# Altium footprint library TerminalBlock_WAGO.PcbLib: 170 footprints (part 2 of 11)
Each footprint in its own frame and in the unit in brackets; x right, y up, seen from the top. Pads: shape width x height; smd on the part's side, far side on the other; paste and mask are expansions set on the pad; w line width, h text height; cw(c..) or ccw(c..) is an arc to the next point about the centre after c.
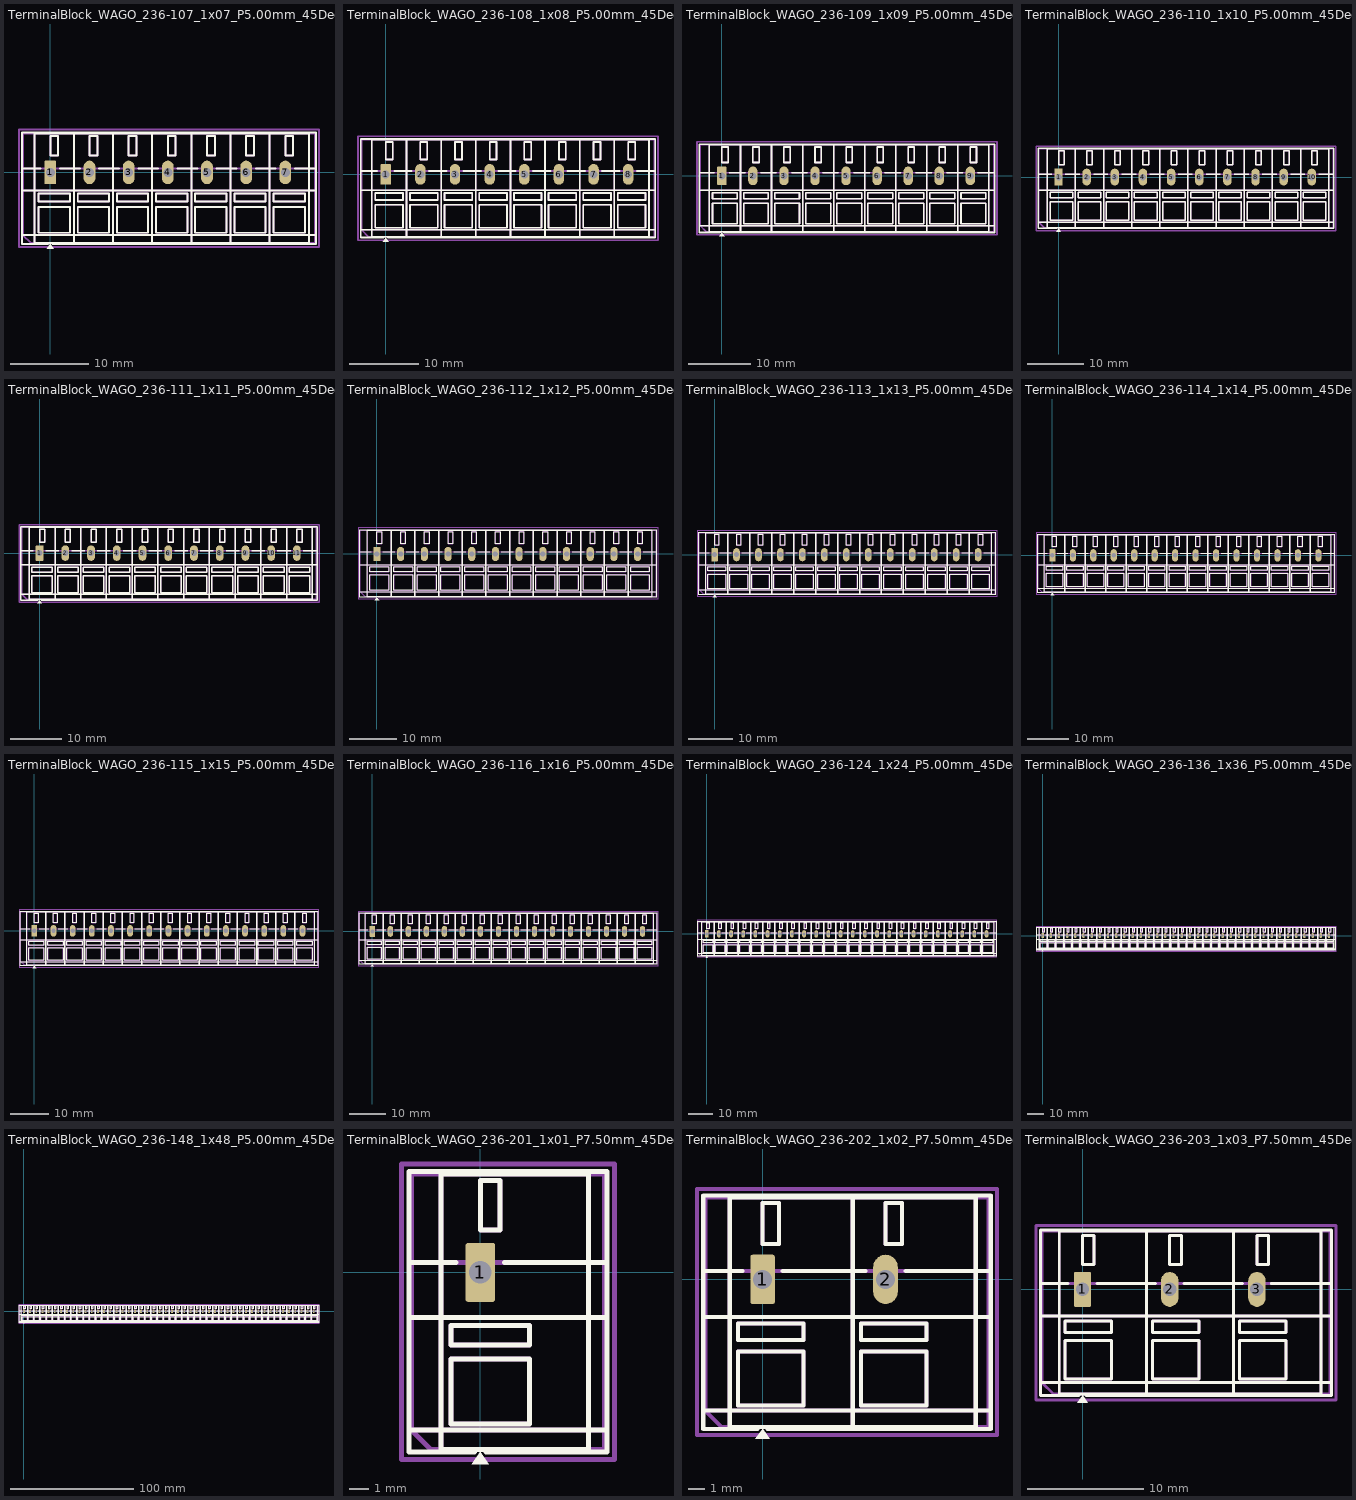
[diagram p1: the footprints below, top view; thin cyan lines are the x and y axes]

## TerminalBlock_WAGO_236-107_1x07_P5.00mm_45Degree [mm]
pads (7):
  rrect17% 1.5x3 hole 1.15: 1(0,0)
  rrect100% 1.5x3 hole 1.15: 2(5,0) 3(10,0) 4(15,0) 5(20,0) 6(25,0) 7(30,0)
F.SilkS:
  region: 0.44,-9.73 -0.44,-9.73 0,-9.12
  lines w0.254: -3.62,-8 33.92,-8 ; -3.62,-2.3 33.92,-2.3 ; -3.62,0.5 -1.23,0.5 ; -0.3,-9.12 -3.62,-9.12 -3.62,5.12 33.92,5.12 33.92,-9.12 0.3,-9.12 ; 1.23,0.5 3.77,0.5 ; 6.23,0.5 8.77,0.5 ; 11.23,0.5 13.77,0.5 ; 16.23,0.5 18.77,0.5 ; 21.23,0.5 23.77,0.5 ; 26.23,0.5 28.77,0.5 ; 31.23,0.5 33.92,0.5 ; 3,-9 3,5 ; 3,-9 -2,-9 -2,5 3,5 ; 3,-9 3,5 ; 3,-9 8,-9 ; 3,5 8,5 ; 8,-9 8,5 ; 8,-9 8,5 ; 8,-9 13,-9 ; 8,5 13,5 ; 13,-9 13,5 ; 13,-9 13,5 ; 13,-9 18,-9 ; 13,5 18,5 ; 18,-9 18,5 ; 18,-9 18,5 ; 18,-9 23,-9 ; 18,5 23,5 ; 23,-9 23,5 ; 23,-9 23,5 ; 23,-9 28,-9 ; 23,5 28,5 ; 28,-9 28,5 ; 28,-9 28,5 ; 28,-9 33,-9 33,5 28,5 ; -1.5,-7.7 -1.5,-4.4 2.5,-4.4 2.5,-7.7 -1.5,-7.7 ; -1.5,-3.7 -1.5,-2.7 2.5,-2.7 2.5,-3.7 -1.5,-3.7 ; 0,2.15 0,4.65 1,4.65 1,2.15 0,2.15 ; 3.5,-7.7 3.5,-4.4 7.5,-4.4 7.5,-7.7 3.5,-7.7 ; 3.5,-3.7 3.5,-2.7 7.5,-2.7 7.5,-3.7 3.5,-3.7 ; 5,2.15 5,4.65 6,4.65 6,2.15 5,2.15 ; 8.5,-7.7 8.5,-4.4 12.5,-4.4 12.5,-7.7 8.5,-7.7 ; 8.5,-3.7 8.5,-2.7 12.5,-2.7 12.5,-3.7 8.5,-3.7 ; 10,2.15 10,4.65 11,4.65 11,2.15 10,2.15 ; 13.5,-7.7 13.5,-4.4 17.5,-4.4 17.5,-7.7 13.5,-7.7 ; 13.5,-3.7 13.5,-2.7 17.5,-2.7 17.5,-3.7 13.5,-3.7 ; 15,2.15 15,4.65 16,4.65 16,2.15 15,2.15 ; 18.5,-7.7 18.5,-4.4 22.5,-4.4 22.5,-7.7 18.5,-7.7 ; 18.5,-3.7 18.5,-2.7 22.5,-2.7 22.5,-3.7 18.5,-3.7 ; 20,2.15 20,4.65 21,4.65 21,2.15 20,2.15 ; 23.5,-7.7 23.5,-4.4 27.5,-4.4 27.5,-7.7 23.5,-7.7 ; 23.5,-3.7 23.5,-2.7 27.5,-2.7 27.5,-3.7 23.5,-3.7 ; 25,2.15 25,4.65 26,4.65 26,2.15 25,2.15 ; 28.5,-7.7 28.5,-4.4 32.5,-4.4 32.5,-7.7 28.5,-7.7 ; 28.5,-3.7 28.5,-2.7 32.5,-2.7 32.5,-3.7 28.5,-3.7 ; 30,2.15 30,4.65 31,4.65 31,2.15 30,2.15
F.Fab:
  lines w0.254: -3.5,-2.3 33.8,-2.3 ; -3.5,0.5 33.8,0.5 ; 33.8,-8 -3.5,-8 ; -3.5,-8 -3.5,5 33.8,5 33.8,-9 -2.5,-9 -3.5,-8 ; 3,-9 -2,-9 -2,5 3,5 ; 3,-9 3,5 ; 3,-9 3,5 ; 3,-9 8,-9 ; 3,5 8,5 ; 8,-9 8,5 ; 8,-9 8,5 ; 8,-9 13,-9 ; 8,5 13,5 ; 13,-9 13,5 ; 13,-9 13,5 ; 13,-9 18,-9 ; 13,5 18,5 ; 18,-9 18,5 ; 18,-9 18,5 ; 18,-9 23,-9 ; 18,5 23,5 ; 23,-9 23,5 ; 23,-9 23,5 ; 23,-9 28,-9 ; 23,5 28,5 ; 28,-9 28,5 ; 28,-9 28,5 ; 28,-9 33,-9 33,5 28,5 ; -1.5,-7.7 -1.5,-4.4 2.5,-4.4 2.5,-7.7 -1.5,-7.7 ; -1.5,-3.7 -1.5,-2.7 2.5,-2.7 2.5,-3.7 -1.5,-3.7 ; 0,2.15 0,4.65 1,4.65 1,2.15 0,2.15 ; 3.5,-7.7 3.5,-4.4 7.5,-4.4 7.5,-7.7 3.5,-7.7 ; 3.5,-3.7 3.5,-2.7 7.5,-2.7 7.5,-3.7 3.5,-3.7 ; 5,2.15 5,4.65 6,4.65 6,2.15 5,2.15 ; 8.5,-7.7 8.5,-4.4 12.5,-4.4 12.5,-7.7 8.5,-7.7 ; 8.5,-3.7 8.5,-2.7 12.5,-2.7 12.5,-3.7 8.5,-3.7 ; 10,2.15 10,4.65 11,4.65 11,2.15 10,2.15 ; 13.5,-7.7 13.5,-4.4 17.5,-4.4 17.5,-7.7 13.5,-7.7 ; 13.5,-3.7 13.5,-2.7 17.5,-2.7 17.5,-3.7 13.5,-3.7 ; 15,2.15 15,4.65 16,4.65 16,2.15 15,2.15 ; 18.5,-7.7 18.5,-4.4 22.5,-4.4 22.5,-7.7 18.5,-7.7 ; 18.5,-3.7 18.5,-2.7 22.5,-2.7 22.5,-3.7 18.5,-3.7 ; 20,2.15 20,4.65 21,4.65 21,2.15 20,2.15 ; 23.5,-7.7 23.5,-4.4 27.5,-4.4 27.5,-7.7 23.5,-7.7 ; 23.5,-3.7 23.5,-2.7 27.5,-2.7 27.5,-3.7 23.5,-3.7 ; 25,2.15 25,4.65 26,4.65 26,2.15 25,2.15 ; 28.5,-7.7 28.5,-4.4 32.5,-4.4 32.5,-7.7 28.5,-7.7 ; 28.5,-3.7 28.5,-2.7 32.5,-2.7 32.5,-3.7 28.5,-3.7 ; 30,2.15 30,4.65 31,4.65 31,2.15 30,2.15
  text "'.Designator'" at 11.103,-1.84 h1
F.CrtYd:
  lines w0.254: -4,-9.5 -4,5.5 34.3,5.5 34.3,-9.5 -4,-9.5

## TerminalBlock_WAGO_236-108_1x08_P5.00mm_45Degree [mm]
pads (8):
  rrect17% 1.5x3 hole 1.15: 1(0,0)
  rrect100% 1.5x3 hole 1.15: 2(5,0) 3(10,0) 4(15,0) 5(20,0) 6(25,0) 7(30,0) 8(35,0)
F.SilkS:
  region: 0.44,-9.73 -0.44,-9.73 0,-9.12
  lines w0.254: -3.62,-8 38.92,-8 ; -3.62,-2.3 38.92,-2.3 ; -3.62,0.5 -1.23,0.5 ; -0.3,-9.12 -3.62,-9.12 -3.62,5.12 38.92,5.12 38.92,-9.12 0.3,-9.12 ; 1.23,0.5 3.77,0.5 ; 6.23,0.5 8.77,0.5 ; 11.23,0.5 13.77,0.5 ; 16.23,0.5 18.77,0.5 ; 21.23,0.5 23.77,0.5 ; 26.23,0.5 28.77,0.5 ; 31.23,0.5 33.77,0.5 ; 36.23,0.5 38.92,0.5 ; 3,-9 3,5 ; 3,-9 -2,-9 -2,5 3,5 ; 3,-9 3,5 ; 3,-9 8,-9 ; 3,5 8,5 ; 8,-9 8,5 ; 8,-9 8,5 ; 8,-9 13,-9 ; 8,5 13,5 ; 13,-9 13,5 ; 13,-9 13,5 ; 13,-9 18,-9 ; 13,5 18,5 ; 18,-9 18,5 ; 18,-9 18,5 ; 18,-9 23,-9 ; 18,5 23,5 ; 23,-9 23,5 ; 23,-9 23,5 ; 23,-9 28,-9 ; 23,5 28,5 ; 28,-9 28,5 ; 28,-9 28,5 ; 28,-9 33,-9 ; 28,5 33,5 ; 33,-9 33,5 ; 33,-9 33,5 ; 33,-9 38,-9 38,5 33,5 ; -1.5,-7.7 -1.5,-4.4 2.5,-4.4 2.5,-7.7 -1.5,-7.7 ; -1.5,-3.7 -1.5,-2.7 2.5,-2.7 2.5,-3.7 -1.5,-3.7 ; 0,2.15 0,4.65 1,4.65 1,2.15 0,2.15 ; 3.5,-7.7 3.5,-4.4 7.5,-4.4 7.5,-7.7 3.5,-7.7 ; 3.5,-3.7 3.5,-2.7 7.5,-2.7 7.5,-3.7 3.5,-3.7 ; 5,2.15 5,4.65 6,4.65 6,2.15 5,2.15 ; 8.5,-7.7 8.5,-4.4 12.5,-4.4 12.5,-7.7 8.5,-7.7 ; 8.5,-3.7 8.5,-2.7 12.5,-2.7 12.5,-3.7 8.5,-3.7 ; 10,2.15 10,4.65 11,4.65 11,2.15 10,2.15 ; 13.5,-7.7 13.5,-4.4 17.5,-4.4 17.5,-7.7 13.5,-7.7 ; 13.5,-3.7 13.5,-2.7 17.5,-2.7 17.5,-3.7 13.5,-3.7 ; 15,2.15 15,4.65 16,4.65 16,2.15 15,2.15 ; 18.5,-7.7 18.5,-4.4 22.5,-4.4 22.5,-7.7 18.5,-7.7 ; 18.5,-3.7 18.5,-2.7 22.5,-2.7 22.5,-3.7 18.5,-3.7 ; 20,2.15 20,4.65 21,4.65 21,2.15 20,2.15 ; 23.5,-7.7 23.5,-4.4 27.5,-4.4 27.5,-7.7 23.5,-7.7 ; 23.5,-3.7 23.5,-2.7 27.5,-2.7 27.5,-3.7 23.5,-3.7 ; 25,2.15 25,4.65 26,4.65 26,2.15 25,2.15 ; 28.5,-7.7 28.5,-4.4 32.5,-4.4 32.5,-7.7 28.5,-7.7 ; 28.5,-3.7 28.5,-2.7 32.5,-2.7 32.5,-3.7 28.5,-3.7 ; 30,2.15 30,4.65 31,4.65 31,2.15 30,2.15 ; 33.5,-7.7 33.5,-4.4 37.5,-4.4 37.5,-7.7 33.5,-7.7 ; 33.5,-3.7 33.5,-2.7 37.5,-2.7 37.5,-3.7 33.5,-3.7 ; 35,2.15 35,4.65 36,4.65 36,2.15 35,2.15
F.Fab:
  lines w0.254: -3.5,-2.3 38.8,-2.3 ; -3.5,0.5 38.8,0.5 ; 38.8,-8 -3.5,-8 ; -3.5,-8 -3.5,5 38.8,5 38.8,-9 -2.5,-9 -3.5,-8 ; 3,-9 -2,-9 -2,5 3,5 ; 3,-9 3,5 ; 3,-9 3,5 ; 3,-9 8,-9 ; 3,5 8,5 ; 8,-9 8,5 ; 8,-9 8,5 ; 8,-9 13,-9 ; 8,5 13,5 ; 13,-9 13,5 ; 13,-9 13,5 ; 13,-9 18,-9 ; 13,5 18,5 ; 18,-9 18,5 ; 18,-9 18,5 ; 18,-9 23,-9 ; 18,5 23,5 ; 23,-9 23,5 ; 23,-9 23,5 ; 23,-9 28,-9 ; 23,5 28,5 ; 28,-9 28,5 ; 28,-9 28,5 ; 28,-9 33,-9 ; 28,5 33,5 ; 33,-9 33,5 ; 33,-9 33,5 ; 33,-9 38,-9 38,5 33,5 ; -1.5,-7.7 -1.5,-4.4 2.5,-4.4 2.5,-7.7 -1.5,-7.7 ; -1.5,-3.7 -1.5,-2.7 2.5,-2.7 2.5,-3.7 -1.5,-3.7 ; 0,2.15 0,4.65 1,4.65 1,2.15 0,2.15 ; 3.5,-7.7 3.5,-4.4 7.5,-4.4 7.5,-7.7 3.5,-7.7 ; 3.5,-3.7 3.5,-2.7 7.5,-2.7 7.5,-3.7 3.5,-3.7 ; 5,2.15 5,4.65 6,4.65 6,2.15 5,2.15 ; 8.5,-7.7 8.5,-4.4 12.5,-4.4 12.5,-7.7 8.5,-7.7 ; 8.5,-3.7 8.5,-2.7 12.5,-2.7 12.5,-3.7 8.5,-3.7 ; 10,2.15 10,4.65 11,4.65 11,2.15 10,2.15 ; 13.5,-7.7 13.5,-4.4 17.5,-4.4 17.5,-7.7 13.5,-7.7 ; 13.5,-3.7 13.5,-2.7 17.5,-2.7 17.5,-3.7 13.5,-3.7 ; 15,2.15 15,4.65 16,4.65 16,2.15 15,2.15 ; 18.5,-7.7 18.5,-4.4 22.5,-4.4 22.5,-7.7 18.5,-7.7 ; 18.5,-3.7 18.5,-2.7 22.5,-2.7 22.5,-3.7 18.5,-3.7 ; 20,2.15 20,4.65 21,4.65 21,2.15 20,2.15 ; 23.5,-7.7 23.5,-4.4 27.5,-4.4 27.5,-7.7 23.5,-7.7 ; 23.5,-3.7 23.5,-2.7 27.5,-2.7 27.5,-3.7 23.5,-3.7 ; 25,2.15 25,4.65 26,4.65 26,2.15 25,2.15 ; 28.5,-7.7 28.5,-4.4 32.5,-4.4 32.5,-7.7 28.5,-7.7 ; 28.5,-3.7 28.5,-2.7 32.5,-2.7 32.5,-3.7 28.5,-3.7 ; 30,2.15 30,4.65 31,4.65 31,2.15 30,2.15 ; 33.5,-7.7 33.5,-4.4 37.5,-4.4 37.5,-7.7 33.5,-7.7 ; 33.5,-3.7 33.5,-2.7 37.5,-2.7 37.5,-3.7 33.5,-3.7 ; 35,2.15 35,4.65 36,4.65 36,2.15 35,2.15
  text "'.Designator'" at 13.603,-1.84 h1
F.CrtYd:
  lines w0.254: -4,-9.5 -4,5.5 39.3,5.5 39.3,-9.5 -4,-9.5

## TerminalBlock_WAGO_236-109_1x09_P5.00mm_45Degree [mm]
pads (9):
  rrect17% 1.5x3 hole 1.15: 1(0,0)
  rrect100% 1.5x3 hole 1.15: 2(5,0) 3(10,0) 4(15,0) 5(20,0) 6(25,0) 7(30,0) 8(35,0) 9(40,0)
F.SilkS:
  drawing of 162 lines, arcs and shapes, not listed
F.Fab:
  drawing of 152 lines, arcs and shapes, not listed
  text "'.Designator'" at 16.103,-1.84 h1
F.CrtYd:
  lines w0.254: -4,-9.5 -4,5.5 44.3,5.5 44.3,-9.5 -4,-9.5

## TerminalBlock_WAGO_236-110_1x10_P5.00mm_45Degree [mm]
pads (10):
  rrect17% 1.5x3 hole 1.15: 1(0,0)
  rrect100% 1.5x3 hole 1.15: 2(5,0) 3(10,0) 4(15,0) 5(20,0) 6(25,0) 7(30,0) 8(35,0) 9(40,0) 10(45,0)
F.SilkS:
  drawing of 179 lines, arcs and shapes, not listed
F.Fab:
  drawing of 168 lines, arcs and shapes, not listed
  text "'.Designator'" at 18.603,-1.84 h1
F.CrtYd:
  lines w0.254: -4,-9.5 -4,5.5 49.3,5.5 49.3,-9.5 -4,-9.5

## TerminalBlock_WAGO_236-111_1x11_P5.00mm_45Degree [mm]
pads (11):
  rrect17% 1.5x3 hole 1.15: 1(0,0)
  rrect100% 1.5x3 hole 1.15: 2(5,0) 3(10,0) 4(15,0) 5(20,0) 6(25,0) 7(30,0) 8(35,0) 9(40,0) 10(45,0) 11(50,0)
F.SilkS:
  drawing of 196 lines, arcs and shapes, not listed
F.Fab:
  drawing of 184 lines, arcs and shapes, not listed
  text "'.Designator'" at 21.103,-1.84 h1
F.CrtYd:
  lines w0.254: -4,-9.5 -4,5.5 54.3,5.5 54.3,-9.5 -4,-9.5

## TerminalBlock_WAGO_236-112_1x12_P5.00mm_45Degree [mm]
pads (12):
  rrect17% 1.5x3 hole 1.15: 1(0,0)
  rrect100% 1.5x3 hole 1.15: 2(5,0) 3(10,0) 4(15,0) 5(20,0) 6(25,0) 7(30,0) 8(35,0) 9(40,0) 10(45,0) 11(50,0) 12(55,0)
F.SilkS:
  drawing of 213 lines, arcs and shapes, not listed
F.Fab:
  drawing of 200 lines, arcs and shapes, not listed
  text "'.Designator'" at 23.603,-1.84 h1
F.CrtYd:
  lines w0.254: -4,-9.5 -4,5.5 59.3,5.5 59.3,-9.5 -4,-9.5

## TerminalBlock_WAGO_236-113_1x13_P5.00mm_45Degree [mm]
pads (13):
  rrect17% 1.5x3 hole 1.15: 1(0,0)
  rrect100% 1.5x3 hole 1.15: 2(5,0) 3(10,0) 4(15,0) 5(20,0) 6(25,0) 7(30,0) 8(35,0) 9(40,0) 10(45,0) 11(50,0) 12(55,0) 13(60,0)
F.SilkS:
  drawing of 230 lines, arcs and shapes, not listed
F.Fab:
  drawing of 216 lines, arcs and shapes, not listed
  text "'.Designator'" at 26.103,-1.84 h1
F.CrtYd:
  lines w0.254: -4,-9.5 -4,5.5 64.3,5.5 64.3,-9.5 -4,-9.5

## TerminalBlock_WAGO_236-114_1x14_P5.00mm_45Degree [mm]
pads (14):
  rrect17% 1.5x3 hole 1.15: 1(0,0)
  rrect100% 1.5x3 hole 1.15: 2(5,0) 3(10,0) 4(15,0) 5(20,0) 6(25,0) 7(30,0) 8(35,0) 9(40,0) 10(45,0) 11(50,0) 12(55,0) 13(60,0) 14(65,0)
F.SilkS:
  drawing of 247 lines, arcs and shapes, not listed
F.Fab:
  drawing of 232 lines, arcs and shapes, not listed
  text "'.Designator'" at 28.603,-1.84 h1
F.CrtYd:
  lines w0.254: -4,-9.5 -4,5.5 69.3,5.5 69.3,-9.5 -4,-9.5

## TerminalBlock_WAGO_236-115_1x15_P5.00mm_45Degree [mm]
pads (15):
  rrect17% 1.5x3 hole 1.15: 1(0,0)
  rrect100% 1.5x3 hole 1.15: 2(5,0) 3(10,0) 4(15,0) 5(20,0) 6(25,0) 7(30,0) 8(35,0) 9(40,0) 10(45,0) 11(50,0) 12(55,0) 13(60,0) 14(65,0) 15(70,0)
F.SilkS:
  drawing of 264 lines, arcs and shapes, not listed
F.Fab:
  drawing of 248 lines, arcs and shapes, not listed
  text "'.Designator'" at 31.103,-1.84 h1
F.CrtYd:
  lines w0.254: -4,-9.5 -4,5.5 74.3,5.5 74.3,-9.5 -4,-9.5

## TerminalBlock_WAGO_236-116_1x16_P5.00mm_45Degree [mm]
pads (16):
  rrect17% 1.5x3 hole 1.15: 1(0,0)
  rrect100% 1.5x3 hole 1.15: 2(5,0) 3(10,0) 4(15,0) 5(20,0) 6(25,0) 7(30,0) 8(35,0) 9(40,0) 10(45,0) 11(50,0) 12(55,0) 13(60,0) 14(65,0) 15(70,0) 16(75,0)
F.SilkS:
  drawing of 281 lines, arcs and shapes, not listed
F.Fab:
  drawing of 264 lines, arcs and shapes, not listed
  text "'.Designator'" at 33.603,-1.84 h1
F.CrtYd:
  lines w0.254: -4,-9.5 -4,5.5 79.3,5.5 79.3,-9.5 -4,-9.5

## TerminalBlock_WAGO_236-124_1x24_P5.00mm_45Degree [mm]
pads (24):
  rrect17% 1.5x3 hole 1.15: 1(0,0)
  rrect100% 1.5x3 hole 1.15: 2(5,0) 3(10,0) 4(15,0) 5(20,0) 6(25,0) 7(30,0) 8(35,0) 9(40,0) 10(45,0) 11(50,0) 12(55,0) 13(60,0) 14(65,0) 15(70,0) 16(75,0) 17(80,0) 18(85,0) 19(90,0) 20(95,0) 21(100,0) 22(105,0) 23(110,0) 24(115,0)
F.SilkS:
  drawing of 417 lines, arcs and shapes, not listed
F.Fab:
  drawing of 392 lines, arcs and shapes, not listed
  text "'.Designator'" at 53.603,-1.84 h1
F.CrtYd:
  lines w0.254: -4,-9.5 -4,5.5 119.3,5.5 119.3,-9.5 -4,-9.5

## TerminalBlock_WAGO_236-136_1x36_P5.00mm_45Degree [mm]
pads (36):
  rrect17% 1.5x3 hole 1.15: 1(0,0)
  rrect100% 1.5x3 hole 1.15: 2(5,0) 3(10,0) 4(15,0) 5(20,0) 6(25,0) 7(30,0) 8(35,0) 9(40,0) 10(45,0) 11(50,0) 12(55,0) 13(60,0) 14(65,0) 15(70,0) 16(75,0) 17(80,0) 18(85,0) 19(90,0) 20(95,0) 21(100,0) 22(105,0) 23(110,0) 24(115,0) 25(120,0) 26(125,0) 27(130,0) 28(135,0) 29(140,0) 30(145,0) 31(150,0) 32(155,0) 33(160,0) 34(165,0) 35(170,0) 36(175,0)
F.SilkS:
  drawing of 621 lines, arcs and shapes, not listed
F.Fab:
  drawing of 584 lines, arcs and shapes, not listed
  text "'.Designator'" at 83.603,-1.84 h1
F.CrtYd:
  lines w0.254: -4,-9.5 -4,5.5 179.3,5.5 179.3,-9.5 -4,-9.5

## TerminalBlock_WAGO_236-148_1x48_P5.00mm_45Degree [mm]
pads (48):
  rrect17% 1.5x3 hole 1.15: 1(0,0)
  rrect100% 1.5x3 hole 1.15: 2(5,0) 3(10,0) 4(15,0) 5(20,0) 6(25,0) 7(30,0) 8(35,0) 9(40,0) 10(45,0) 11(50,0) 12(55,0) 13(60,0) 14(65,0) 15(70,0) 16(75,0) 17(80,0) 18(85,0) 19(90,0) 20(95,0) 21(100,0) 22(105,0) 23(110,0) 24(115,0) 25(120,0) 26(125,0) 27(130,0) 28(135,0) 29(140,0) 30(145,0) 31(150,0) 32(155,0) 33(160,0) 34(165,0) 35(170,0) 36(175,0) 37(180,0) 38(185,0) 39(190,0) 40(195,0) 41(200,0) 42(205,0) 43(210,0) 44(215,0) 45(220,0) 46(225,0) 47(230,0) 48(235,0)
F.SilkS:
  drawing of 825 lines, arcs and shapes, not listed
F.Fab:
  drawing of 776 lines, arcs and shapes, not listed
  text "'.Designator'" at 113.603,-1.84 h1
F.CrtYd:
  lines w0.254: -4,-9.5 -4,5.5 239.3,5.5 239.3,-9.5 -4,-9.5

## TerminalBlock_WAGO_236-201_1x01_P7.50mm_45Degree [mm]
pads (1):
  rrect17% 1.5x3 hole 1.15: 1(0,0)
F.SilkS:
  region: 0.44,-9.73 -0.44,-9.73 0,-9.12
  lines w0.254: -3.62,-8 6.42,-8 ; -3.62,-2.3 6.42,-2.3 ; -3.62,0.5 -1.23,0.5 ; -0.3,-9.12 -3.62,-9.12 -3.62,5.12 6.42,5.12 6.42,-9.12 0.3,-9.12 ; 1.23,0.5 6.42,0.5 ; -2,-9 -2,5 5.5,5 5.5,-9 -2,-9 ; -1.5,-7.7 -1.5,-4.4 2.5,-4.4 2.5,-7.7 -1.5,-7.7 ; -1.5,-3.7 -1.5,-2.7 2.5,-2.7 2.5,-3.7 -1.5,-3.7 ; 0,2.15 0,4.65 1,4.65 1,2.15 0,2.15
F.Fab:
  lines w0.254: -3.5,-2.3 6.3,-2.3 ; -3.5,0.5 6.3,0.5 ; 6.3,-8 -3.5,-8 ; -3.5,-8 -3.5,5 6.3,5 6.3,-9 -2.5,-9 -3.5,-8 ; -2,-9 -2,5 5.5,5 5.5,-9 -2,-9 ; -1.5,-7.7 -1.5,-4.4 2.5,-4.4 2.5,-7.7 -1.5,-7.7 ; -1.5,-3.7 -1.5,-2.7 2.5,-2.7 2.5,-3.7 -1.5,-3.7 ; 0,2.15 0,4.65 1,4.65 1,2.15 0,2.15
  text "'.Designator'" at -2.647,-1.84 h1
F.CrtYd:
  lines w0.254: -4,-9.5 -4,5.5 6.81,5.5 6.81,-9.5 -4,-9.5

## TerminalBlock_WAGO_236-202_1x02_P7.50mm_45Degree [mm]
pads (2):
  rrect17% 1.5x3 hole 1.15: 1(0,0)
  rrect100% 1.5x3 hole 1.15: 2(7.5,0)
F.SilkS:
  region: 0.44,-9.73 -0.44,-9.73 0,-9.12
  lines w0.254: -3.62,-8 13.92,-8 ; -3.62,-2.3 13.92,-2.3 ; -3.62,0.5 -1.23,0.5 ; -0.3,-9.12 -3.62,-9.12 -3.62,5.12 13.92,5.12 13.92,-9.12 0.3,-9.12 ; 1.23,0.5 6.27,0.5 ; 8.73,0.5 13.92,0.5 ; 5.5,-9 5.5,5 ; 5.5,-9 -2,-9 -2,5 5.5,5 ; 5.5,-9 5.5,5 ; 5.5,-9 13,-9 13,5 5.5,5 ; -1.5,-7.7 -1.5,-4.4 2.5,-4.4 2.5,-7.7 -1.5,-7.7 ; -1.5,-3.7 -1.5,-2.7 2.5,-2.7 2.5,-3.7 -1.5,-3.7 ; 0,2.15 0,4.65 1,4.65 1,2.15 0,2.15 ; 6,-7.7 6,-4.4 10,-4.4 10,-7.7 6,-7.7 ; 6,-3.7 6,-2.7 10,-2.7 10,-3.7 6,-3.7 ; 7.5,2.15 7.5,4.65 8.5,4.65 8.5,2.15 7.5,2.15
F.Fab:
  lines w0.254: -3.5,-2.3 13.8,-2.3 ; -3.5,0.5 13.8,0.5 ; 13.8,-8 -3.5,-8 ; -3.5,-8 -3.5,5 13.8,5 13.8,-9 -2.5,-9 -3.5,-8 ; 5.5,-9 -2,-9 -2,5 5.5,5 ; 5.5,-9 5.5,5 ; 5.5,-9 5.5,5 ; 5.5,-9 13,-9 13,5 5.5,5 ; -1.5,-7.7 -1.5,-4.4 2.5,-4.4 2.5,-7.7 -1.5,-7.7 ; -1.5,-3.7 -1.5,-2.7 2.5,-2.7 2.5,-3.7 -1.5,-3.7 ; 0,2.15 0,4.65 1,4.65 1,2.15 0,2.15 ; 6,-7.7 6,-4.4 10,-4.4 10,-7.7 6,-7.7 ; 6,-3.7 6,-2.7 10,-2.7 10,-3.7 6,-3.7 ; 7.5,2.15 7.5,4.65 8.5,4.65 8.5,2.15 7.5,2.15
  text "'.Designator'" at 1.103,-1.84 h1
F.CrtYd:
  lines w0.254: -4,-9.5 -4,5.5 14.3,5.5 14.3,-9.5 -4,-9.5

## TerminalBlock_WAGO_236-203_1x03_P7.50mm_45Degree [mm]
pads (3):
  rrect17% 1.5x3 hole 1.15: 1(0,0)
  rrect100% 1.5x3 hole 1.15: 2(7.5,0) 3(15,0)
F.SilkS:
  region: 0.44,-9.73 -0.44,-9.73 0,-9.12
  lines w0.254: -3.62,-8 21.42,-8 ; -3.62,-2.3 21.42,-2.3 ; -3.62,0.5 -1.23,0.5 ; -0.3,-9.12 -3.62,-9.12 -3.62,5.12 21.42,5.12 21.42,-9.12 0.3,-9.12 ; 1.23,0.5 6.27,0.5 ; 8.73,0.5 13.77,0.5 ; 16.23,0.5 21.42,0.5 ; 5.5,-9 5.5,5 ; 5.5,-9 -2,-9 -2,5 5.5,5 ; 5.5,-9 5.5,5 ; 5.5,-9 13,-9 ; 5.5,5 13,5 ; 13,-9 13,5 ; 13,-9 13,5 ; 13,-9 20.5,-9 20.5,5 13,5 ; -1.5,-7.7 -1.5,-4.4 2.5,-4.4 2.5,-7.7 -1.5,-7.7 ; -1.5,-3.7 -1.5,-2.7 2.5,-2.7 2.5,-3.7 -1.5,-3.7 ; 0,2.15 0,4.65 1,4.65 1,2.15 0,2.15 ; 6,-7.7 6,-4.4 10,-4.4 10,-7.7 6,-7.7 ; 6,-3.7 6,-2.7 10,-2.7 10,-3.7 6,-3.7 ; 7.5,2.15 7.5,4.65 8.5,4.65 8.5,2.15 7.5,2.15 ; 13.5,-7.7 13.5,-4.4 17.5,-4.4 17.5,-7.7 13.5,-7.7 ; 13.5,-3.7 13.5,-2.7 17.5,-2.7 17.5,-3.7 13.5,-3.7 ; 15,2.15 15,4.65 16,4.65 16,2.15 15,2.15
F.Fab:
  lines w0.254: -3.5,-2.3 21.3,-2.3 ; -3.5,0.5 21.3,0.5 ; 21.3,-8 -3.5,-8 ; -3.5,-8 -3.5,5 21.3,5 21.3,-9 -2.5,-9 -3.5,-8 ; 5.5,-9 -2,-9 -2,5 5.5,5 ; 5.5,-9 5.5,5 ; 5.5,-9 5.5,5 ; 5.5,-9 13,-9 ; 5.5,5 13,5 ; 13,-9 13,5 ; 13,-9 13,5 ; 13,-9 20.5,-9 20.5,5 13,5 ; -1.5,-7.7 -1.5,-4.4 2.5,-4.4 2.5,-7.7 -1.5,-7.7 ; -1.5,-3.7 -1.5,-2.7 2.5,-2.7 2.5,-3.7 -1.5,-3.7 ; 0,2.15 0,4.65 1,4.65 1,2.15 0,2.15 ; 6,-7.7 6,-4.4 10,-4.4 10,-7.7 6,-7.7 ; 6,-3.7 6,-2.7 10,-2.7 10,-3.7 6,-3.7 ; 7.5,2.15 7.5,4.65 8.5,4.65 8.5,2.15 7.5,2.15 ; 13.5,-7.7 13.5,-4.4 17.5,-4.4 17.5,-7.7 13.5,-7.7 ; 13.5,-3.7 13.5,-2.7 17.5,-2.7 17.5,-3.7 13.5,-3.7 ; 15,2.15 15,4.65 16,4.65 16,2.15 15,2.15
  text "'.Designator'" at 4.853,-1.84 h1
F.CrtYd:
  lines w0.254: -4,-9.5 -4,5.5 21.8,5.5 21.8,-9.5 -4,-9.5